# Altium footprint library DIP_Capacitor.PcbLib: 11 footprints
Each footprint in its own frame and in the unit in brackets; x right, y up, seen from the top. Pads: shape width x height; smd on the part's side, far side on the other; paste and mask are expansions set on the pad; w line width, h text height; cw(c..) or ccw(c..) is an arc to the next point about the centre after c.
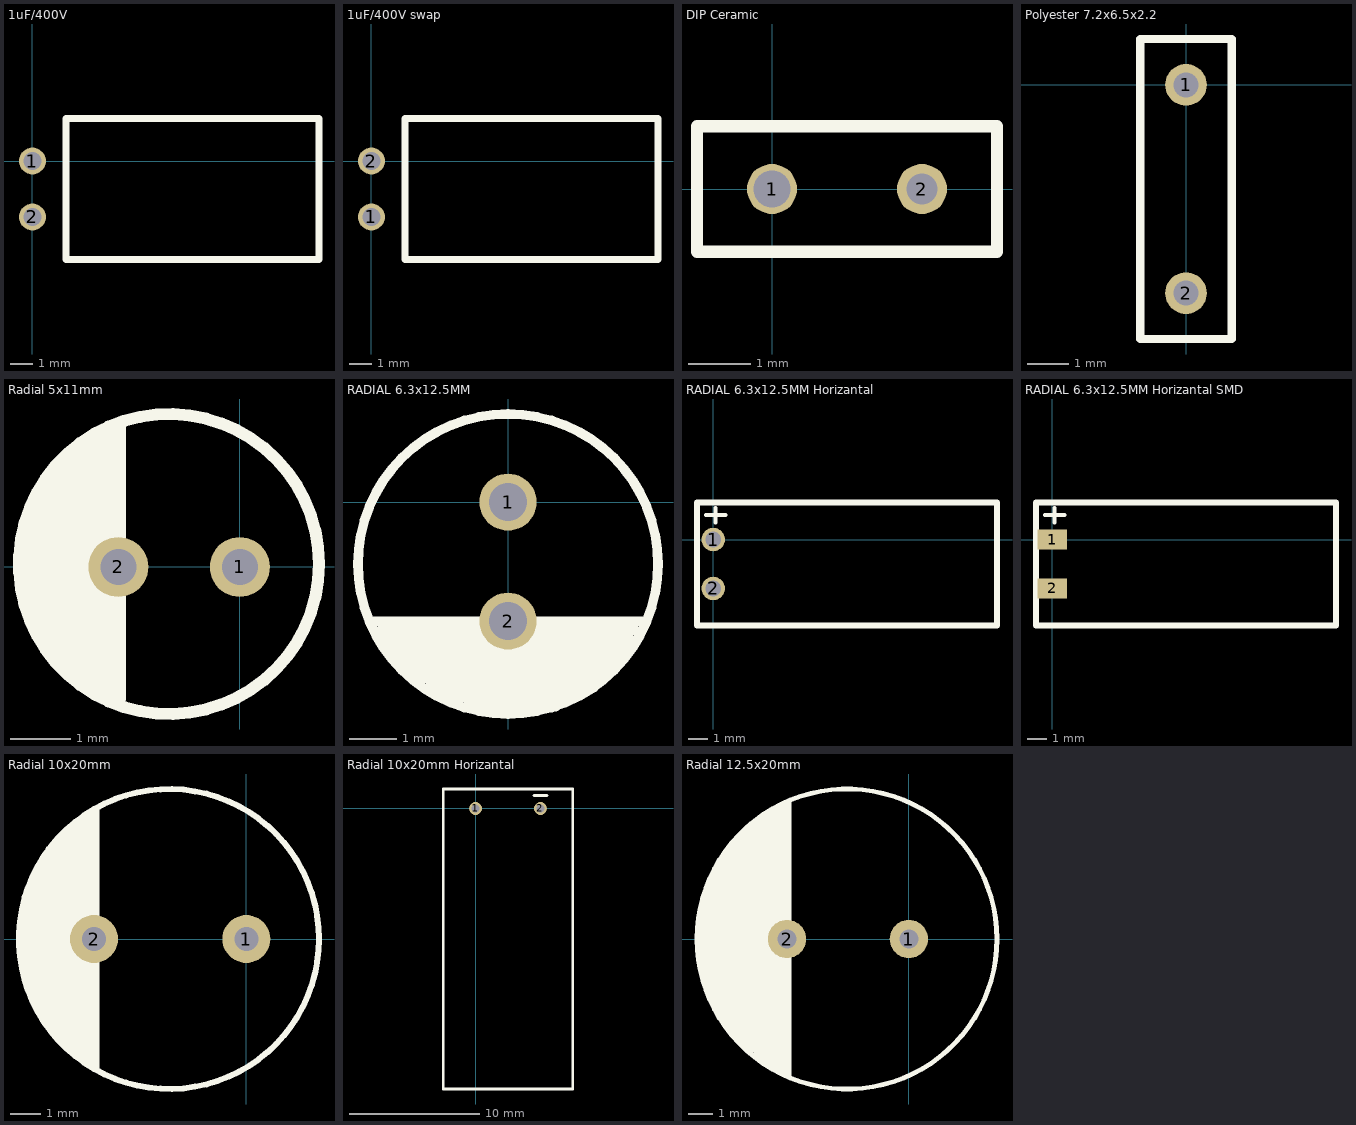
[diagram p0: the footprints below, top view; thin cyan lines are the x and y axes]

## 1uF/400V [mm]
pads (2):
  round 1.2 hole 0.8: 1(0,0) 2(0,-2.5)
Top Overlay:
  lines w0.3: 1.5,-4.4 1.5,1.9 10,1.9 12.8,1.9 12.8,-4.4 1.5,-4.4

## 1uF/400V swap [mm]
pads (2):
  round 1.2 hole 0.8: 1(0,-2.5) 2(0,0)
Top Overlay:
  lines w0.3: 1.5,-4.4 1.5,1.9 10,1.9 12.8,1.9 12.8,-4.4 1.5,-4.4

## DIP Ceramic [mm]
pads (2):
  round 0.8 hole 0.6: 1(0,0)
  round 0.8 hole 0.5: 2(2.4,0)
Top Overlay:
  lines w0.2: -1.2,-1 3.6,-1 3.6,1 -1.2,1 -1.2,-1
3D body: height 5.46, standoff -3.5, extent -1.258,-1 3.659,1

## Polyester 7.2x6.5x2.2 [mm]
pads (2):
  round 1 hole 0.6: 1(0,0) 2(0,-5)
Top Overlay:
  lines w0.2: -1.1,-6.1 -1.1,1.1 1.1,1.1 1.1,-6.1 -1.1,-6.1
3D body: height 7.03, standoff -3.5, extent -1.1,-6.1 1.1,1.1

## Radial 5x11mm [mm]
pads (2):
  round 1 hole 0.6: 1(0,0) 2(-2.025,0)
Top Overlay:
  circle w0.2: c-1.18,0.05 r2.5
  lines w0.2: -3.6,0.7 -3.6,-0.6 -2.4,-1.8 -2.4,-2.1 -2.4,2.2 ; -3.4,-1.1 -3.4,1.2 ; -3.2,1.5 -3.2,-1.3 -3.05,-1.3 -2.4,-1.95 ; -3,1.7 -3,-1.5 -2.8,-1.7 ; -2.8,1.9 -2.8,-1.7 ; -2.6,2.1 -2.6,-1.9 -2.8,-1.7 ; -2.2,-2.2 -2.2,2.3 ; -2,-2.2 -2,2.4
3D body: height 3.5, standoff -13, extent -3.726,-2.741 1.75,2.742

## RADIAL 6.3x12.5MM [mm]
pads (2):
  round 1.2 hole 0.8: 1(0,0) 2(0,-2.5)
Top Overlay:
  circle w0.2: c0,-1.3 r3.15
  lines w0.2: -2.9,-2.5 2.9,-2.5 ; -2.7,-2.9 2.6,-2.9 ; -2.7,-2.7 2.7,-2.7 ; -2.5,-3.1 2.5,-3.1 ; -2.4,-3.3 2.4,-3.3 ; -2.2,-3.5 2.2,-3.5 ; -2,-3.7 2,-3.7 ; -1.7,-3.9 1.8,-3.9 ; -1.4,-4.1 1.4,-4.1 ; -0.9,-4.3 1,-4.3
3D body: height 12.83, standoff -3.21, extent -3.175,-4.426 3.175,1.925

## RADIAL 6.3x12.5MM Horizantal [mm]
pads (2):
  round 1.2 hole 0.8: 1(0,0) 2(0,-2.5)
Top Overlay:
  lines w0.2: -0.375,1.25 0.625,1.25 ; 0.125,0.875 0.125,1.625
  lines w0.3: -0.825,-4.4 -0.825,1.9 10,1.9 14.5,1.9 14.5,-4.4 -0.825,-4.4
3D body: height 6.38, standoff -2.8, extent -0.295,-4.45 14.526,1.9

## RADIAL 6.3x12.5MM Horizantal SMD [mm]
pads (2):
  rect 1.5x1 smd: 1(0,0) 2(0,-2.5)
Top Overlay:
  lines w0.2: -0.375,1.25 0.625,1.25 ; 0.125,0.875 0.125,1.625
  lines w0.3: -0.825,-4.4 14.5,-4.4 14.5,1.9 10,1.9 -0.825,1.9 -0.825,-4.4
3D body: height 9.18, standoff 0, extent -0.295,-4.45 14.526,1.9

## Radial 10x20mm [mm]
pads (2):
  round 1.6 hole 0.8: 1(0,0) 2(-5.08,0)
Top Overlay:
  circle w0.2: c-2.58,0 r5
  lines w0.2: -7.4,1.4 -7.4,-1.2 -7.3,-1.3 ; -7.2,1.9 -7.2,-1.8 -7,-2 ; -7,2.3 -7,-2.2 -6.8,-2.4 ; -6.8,2.7 -6.8,-2.7 -6.6,-2.9 ; -6.6,3 -6.6,-2.9 ; -6.4,-2.8 -6.4,2.9 ; -6.4,3.2 -6.4,-3.1 ; -6.2,3.4 -6.2,-3.3 ; -6,3.6 -6,-3.5 ; -5.8,3.8 -5.8,-3.7 ; -5.6,-3.9 -5.6,-3.7 ; -5.6,3.9 -5.6,-3.7 ; -5.4,4.1 -5.4,-3.9 ; -5.2,4.2 -5.2,-4.1 ; -5,4.3 -5,-4.3 -5.2,-4.1 ; -6.6,-2.9 -6.4,-3.1 ; -6.4,-3.1 -6.2,-3.3 ; -6.2,-3.3 -6,-3.5 ; -6,-3.5 -5.8,-3.7 ; -5.8,-3.7 -5.6,-3.7 ; -5.6,-3.7 -5.4,-3.9 ; -5.6,-3.7 -5.4,-3.9 ; -5.4,-3.9 -5.2,-4.1
3D body: height 20.32, standoff -2.9, extent -7.63,-5.067 2.53,5.067

## Radial 10x20mm Horizantal [mm]
pads (2):
  round 1 hole 0.6: 1(0,0) 2(5,0)
Top Overlay:
  lines w0.2: 4.5,1 5.5,1 ; -2.5,-21.6 -2.5,1.5 7.5,1.5 7.5,-21.6 -2.5,-21.6
3D body: height 10.07, standoff -0.07, extent -2.6,-21.71 7.56,1.51

## Radial 12.5x20mm [mm]
pads (2):
  round 1.6 hole 0.8: 1(0,0) 2(-5.08,0)
Top Overlay:
  circle w0.2: c-2.58,0 r6.25
  lines w0.2: -8.7,-0.9 -8.7,0.9 ; -8.6,1.7 -8.6,-1.6 -8.4,-1.8 ; -8.4,2.2 -8.4,-2.1 -8.2,-2.3 ; -8.2,2.7 -8.2,-2.6 -8.1,-2.7 ; -8,3.1 -8,-3 -7.8,-3.2 ; -7.8,3.4 -7.8,-3.2 ; -7.6,-3.4 -7.8,-3.2 ; -7.6,3.7 -7.6,-3.7 -7.4,-3.9 ; -7.4,3.9 -7.4,-3.9 ; -7.2,4.2 -7.2,-4.1 ; -7,4.4 -7,-4.3 ; -6.9,-4.4 -7,-4.3 ; -6.8,-4.6 -6.8,4.6 ; -6.6,-4.7 -6.6,4.8 ; -6.4,4.9 -6.4,-4.7 -6.2,-4.9 ; -6.2,5 -6.2,-4.9 ; -6,5.2 -6,-5.1 ; -5.8,5.3 -5.8,-5.3 -6,-5.1 ; -5.6,5.4 -5.6,-5.3 -5.4,-5.5 -5.4,5.5 ; -5.2,5.6 -5.2,-5.5 -5,-5.7 -5,5.7 ; -7.4,-3.9 -7.2,-4.1 ; -7.2,-4.1 -7,-4.3 ; -6.2,-4.9 -6,-5.1
3D body: height 20.5, standoff -3.5, extent -8.802,-6.231 3.7,6.23